# Altium footprint library Buzzers.PcbLib: 3 footprints
Each footprint in its own frame and in the unit in brackets; x right, y up, seen from the top. Pads: shape width x height; smd on the part's side, far side on the other; paste and mask are expansions set on the pad; w line width, h text height; cw(c..) or ccw(c..) is an arc to the next point about the centre after c.
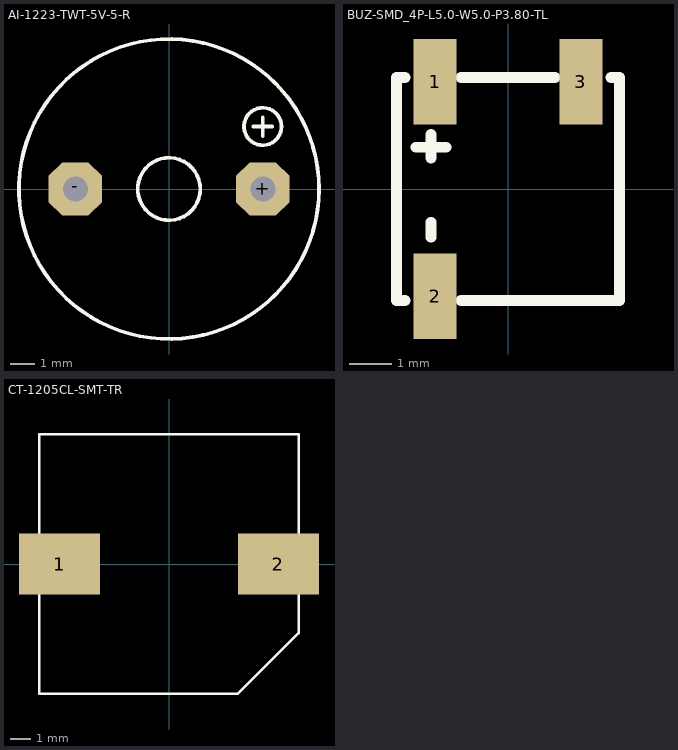
[diagram p0: the footprints below, top view; thin cyan lines are the x and y axes]

## AI-1223-TWT-5V-5-R [mil] "12.0 mm D x 9.5 mm H"
pads (2):
  oct 85x85 hole 40: +(150,0) -(-150,0)
Top Overlay:
  circle w6: c0,0 r240
  circle w6: c0,0 r50
  circle w6: c150,100 r30
  lines w6: 135,100 165,100 ; 150,85 150,115
3D body: height 374.02, standoff 0, extent -236.22,-236.15 236.22,236.16
3D body: height 0, standoff -150, extent -169.99,-20 -129.99,20
3D body: height 5, standoff -145, extent 130,-20 170,20

## BUZ-SMD_4P-L5.0-W5.0-P3.80-TL [mm]
pads (3):
  rect 1x2 smd: 1(-1.7,2.5) 2(-1.7,-2.5) 3(1.7,2.5)
Top Overlay:
  lines w0.254: -2.4,-2.6 -2.6,-2.6 -2.6,2.6 -2.4,2.6 ; -2.15,0.975 -1.45,0.975 ; -1.8,-1.125 -1.8,-0.775 ; -1.8,0.725 -1.8,1.269 ; -1.1,-2.6 1.3,-2.6 ; -1.1,2.6 1.1,2.601 ; 1.301,-2.601 1.4,-2.601 2.6,-2.6 2.601,-1.4 ; 2.4,2.6 2.6,2.6 2.6,-1.4
3D body: height 2.5, standoff 0, extent -2.667,-2.667 2.667,2.667

## CT-1205CL-SMT-TR [mm] "12.8 mm L x 12.8 mm A x 7.6 mm H"
pads (2):
  rect 4x3 smd: 1(-5.4,0) 2(5.4,0)
Top Overlay:
  lines w0.127: -6.4,-1.51 -6.4,-6.4 3.4,-6.4 6.4,-3.41 ; -6.4,1.51 -6.4,6.4 6.4,6.4 6.4,1.51 ; 6.4,-3.4 6.4,-1.51
3D body "ct-1205cl-smt.stp": height 7.11, standoff 0.01, extent -6.9,-6.4 6.9,6.4